# Altium schematic symbol library DAQ1.SchLib: 3 symbols
Pins are listed as number, name and electrical type; pins without a type are passive.

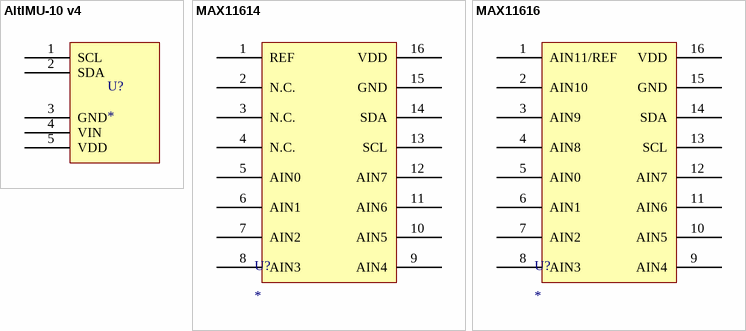
[diagram p0: symbols AltIMU-10 v4 to MAX11616]

## AltIMU-10 v4
designator U?
AltIMU-10 v4 Gyro, Accelerometer, Compass, and Altimeter (L3GD20H, LSM303D, and LPS25H Carrier); ComponentLink1Description: Webpage; ComponentLink1URL: https://www.pololu.com/product/2470/resources
footprint AltIMU-10 v4 (AltIMU-10 v4 Gyro, Accelerometer, Compass, and Altimeter (L3GD20H, LSM303D, and LPS25H Carrier))
pins: 1 SCL, 2 SDA, 3 GND, 4 VIN, 5 VDD

## MAX11614
designator U?
8 channel ADC to I2C converter; ComponentLink1Description: Datasheet; ComponentLink1URL: https://www.mouser.com/datasheet/2/256/MAX11612-MAX11617-78493.pdf
footprint MAX11614 (8 channel ADC to I2C converter)
pins: 1 REF, 2 N.C., 3 N.C., 4 N.C., 5 AIN0, 6 AIN1, 7 AIN2, 8 AIN3, 9 AIN4, 10 AIN5, 11 AIN6, 12 AIN7, 13 SCL, 14 SDA, 15 GND, 16 VDD

## MAX11616
designator U?
12 channel ADC to I2C converter; ComponentLink1Description: Datasheet; ComponentLink1URL: https://www.mouser.com/datasheet/2/256/MAX11612-MAX11617-78493.pdf
footprint MAX11616 (12 channel ADC to I2C converter)
pins: 1 AIN11/REF, 2 AIN10, 3 AIN9, 4 AIN8, 5 AIN0, 6 AIN1, 7 AIN2, 8 AIN3, 9 AIN4, 10 AIN5, 11 AIN6, 12 AIN7, 13 SCL, 14 SDA, 15 GND, 16 VDD